# Altium footprint library TerminalBlock.PcbLib: 56 footprints (part 1 of 4)
Each footprint in its own frame and in the unit in brackets; x right, y up, seen from the top. Pads: shape width x height; smd on the part's side, far side on the other; paste and mask are expansions set on the pad; w line width, h text height; cw(c..) or ccw(c..) is an arc to the next point about the centre after c.
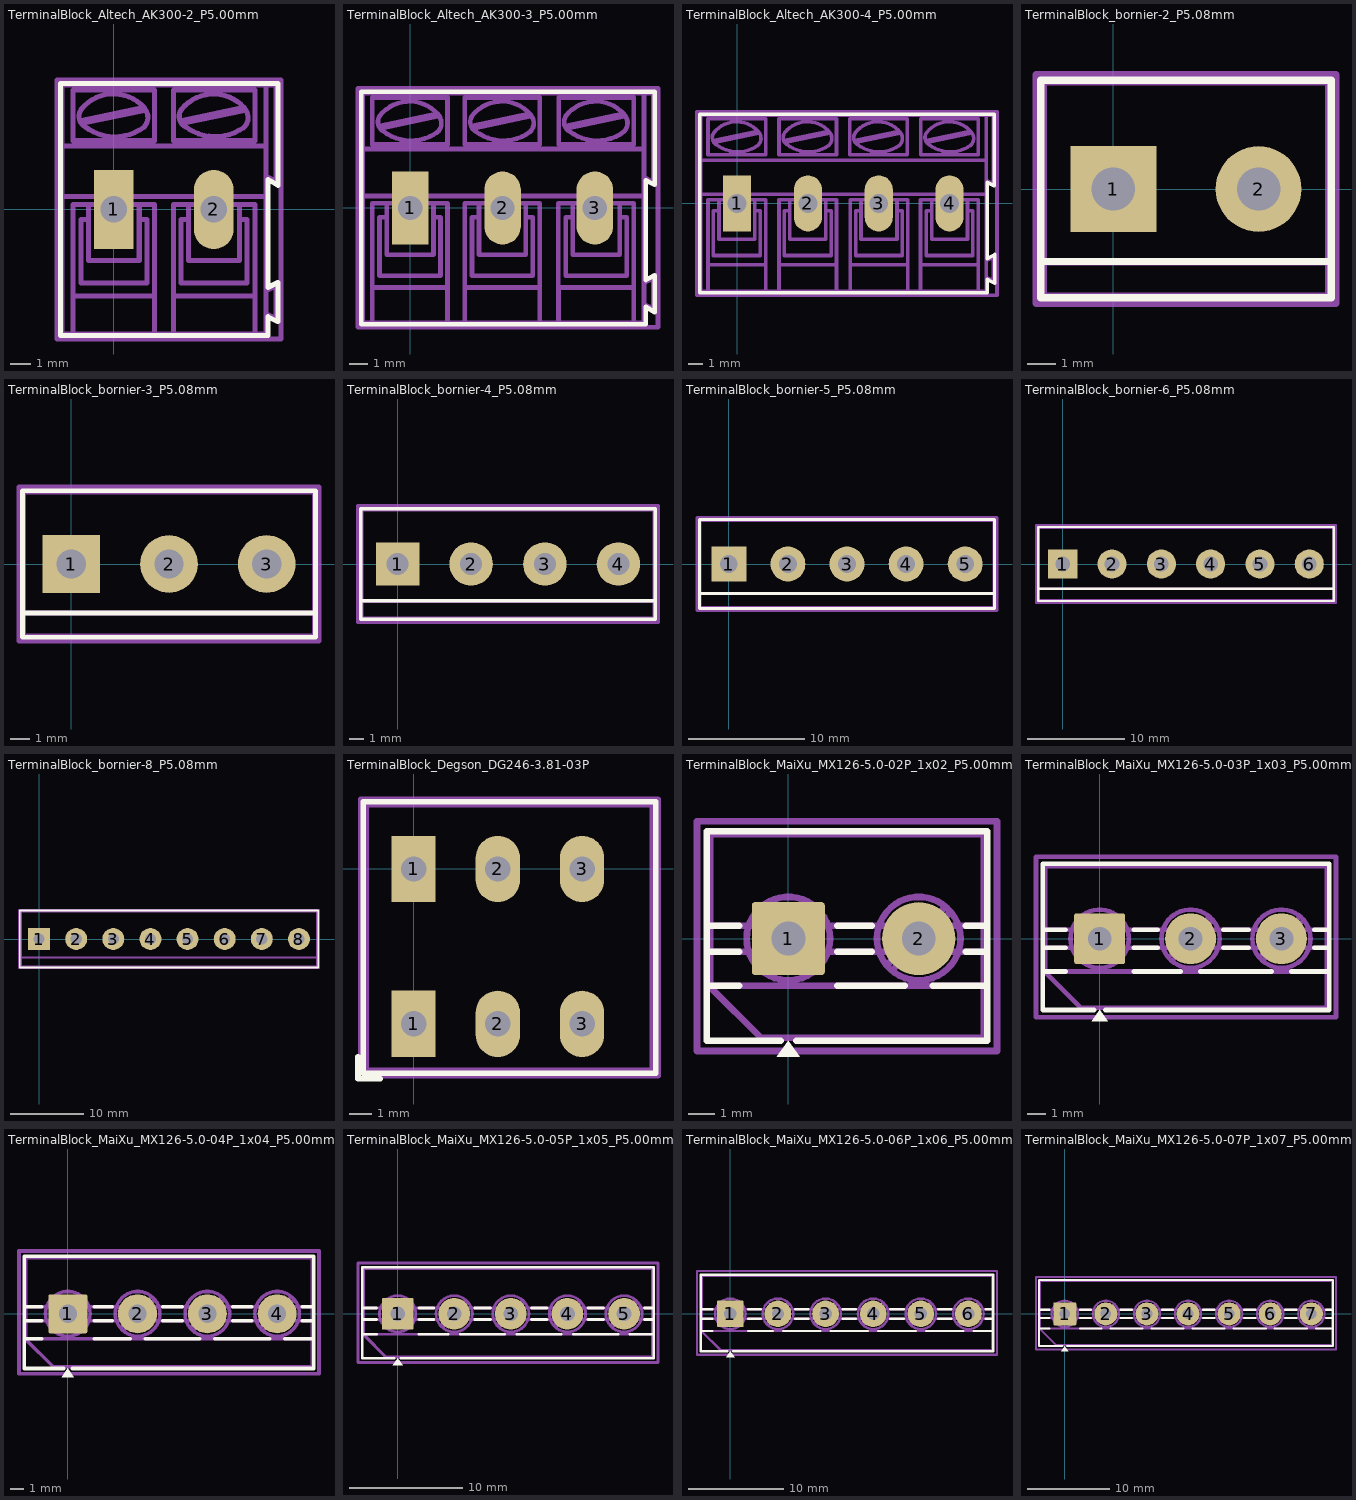
[diagram p0: the footprints below, top view; thin cyan lines are the x and y axes]

## TerminalBlock_Altech_AK300-2_P5.00mm [mm]
pads (2):
  rect 1.98x3.96 hole 1.32: 1(0,0)
  rrect100% 1.98x3.96 hole 1.32: 2(5,0)
F.SilkS:
  lines w0.254: -2.65,-6.3 -2.65,6.3 8.2,6.3 8.2,1.2 7.7,1.5 7.7,-3.9 8.2,-3.65 8.2,-3.7 8.2,-5.6 7.7,-5.35 7.7,-6.3 -2.65,-6.3
F.Fab:
  lines w0.254: -1.62,4.45 1.44,5.08 ; -1.62,5 cw(c-0.01,3.71) 1.54,5.072 ; -1.563,5.059 ccw(c-1.13,4.65) -1.42,4.13 ; -1.49,4.32 1.56,4.95 ; -1.46,4.159 ccw(c0.06,6.07) 1.53,4.12 ; -1.26,-0.51 -1.64,-0.51 -1.64,-3.68 1.66,-3.68 1.66,-0.51 1.28,-0.51 ; 1.486,4.086 ccw(c1.03,4.59) 1.53,5.05 ; 3.39,4.45 6.44,5.08 ; 3.39,5 cw(c4.99,3.71) 6.538,5.062 ; 3.437,5.059 ccw(c3.87,4.65) 3.58,4.13 ; 3.52,4.32 6.56,4.95 ; 3.548,4.168 ccw(c5.07,6.07) 6.53,4.12 ; 3.74,-0.51 3.36,-0.51 3.36,-3.68 6.67,-3.68 6.67,-0.51 6.28,-0.51 ; 6.486,4.076 ccw(c6.03,4.59) 6.54,5.05 ; -2.58,0.64 -2.58,3.17 ; -2.58,0.64 -1.64,0.64 1.66,0.64 3.36,0.64 6.67,0.64 7.61,0.64 ; -2.58,0.64 -2.58,-6.22 -2.02,-6.22 ; -2.58,3.17 -2.58,6.22 7.61,6.22 ; -2.58,3.17 7.61,3.17 ; -2.02,-6.22 -2.02,-4.32 ; -2.02,-6.22 2.04,-6.22 ; -2.02,-4.32 -2.02,0.25 -1.64,0.25 1.66,0.25 2.04,0.25 2.04,-4.32 ; -2.02,-4.32 2.04,-4.32 ; 2.04,-6.22 2.04,-4.32 ; 2.04,-6.22 2.98,-6.22 ; 2.98,-6.22 2.98,-4.32 ; 2.98,-6.22 7.05,-6.22 ; 2.98,-4.32 2.98,0.25 3.36,0.25 6.67,0.25 7.05,0.25 7.05,-4.32 ; 2.98,-4.32 7.05,-4.32 ; 7.05,-6.22 7.05,-4.32 ; 7.05,-6.22 7.61,-6.22 7.61,-5.21 ; 7.61,-5.21 7.61,-4.06 ; 7.61,-5.21 8.11,-5.46 8.11,-3.81 7.61,-4.06 ; 7.61,-4.06 7.61,0.64 ; 7.61,0.64 7.61,1.65 ; 7.61,1.65 7.61,3.17 ; 7.61,1.65 8.11,1.4 8.11,6.22 7.61,6.22 ; 7.61,3.17 7.61,6.22 ; -2.02,3.43 -2.02,5.97 2.04,5.97 2.04,3.43 -2.02,3.43 ; -1.26,-2.54 -1.26,0.25 1.28,0.25 1.28,-2.54 -1.26,-2.54 ; 2.98,3.43 2.98,5.97 7.05,5.97 7.05,3.43 2.98,3.43 ; 3.74,-2.54 3.74,0.25 6.28,0.25 6.28,-2.54 3.74,-2.54
  text "'.Designator'" at -1.547,1.16 h1
F.CrtYd:
  lines w0.254: -2.83,-6.47 -2.83,6.47 8.36,6.47 8.36,-6.47 -2.83,-6.47

## TerminalBlock_Altech_AK300-3_P5.00mm [mm]
pads (3):
  rect 1.98x3.96 hole 1.32: 1(0,0)
  rrect100% 1.98x3.96 hole 1.32: 2(5,0) 3(10,0)
F.SilkS:
  lines w0.254: -2.65,-6.3 -2.65,6.3 13.25,6.3 13.25,1.25 12.75,1.5 12.75,-3.9 13.25,-3.65 13.25,-5.65 12.75,-5.35 12.75,-6.3 -2.65,-6.3
F.Fab:
  lines w0.254: -2.52,0.65 12.66,0.65 ; -1.64,4.46 1.41,5.09 ; -1.64,5.01 cw(c-0.04,3.72) 1.508,5.072 ; -1.595,5.059 ccw(c-1.16,4.66) -1.44,4.14 ; -1.51,4.33 1.53,4.96 ; -1.482,4.178 ccw(c0.04,6.08) 1.5,4.13 ; -1.28,-0.5 -1.67,-0.5 -1.67,-3.67 1.64,-3.67 1.64,-0.5 1.26,-0.5 ; 1.456,4.086 ccw(c1,4.6) 1.51,5.06 ; 3.36,4.46 6.41,5.09 ; 3.36,5.01 cw(c4.96,3.72) 6.508,5.072 ; 3.417,5.069 ccw(c3.85,4.66) 3.56,4.14 ; 3.49,4.33 6.54,4.96 ; 3.518,4.178 ccw(c5.04,6.08) 6.5,4.13 ; 3.72,-0.5 3.34,-0.5 3.34,-3.67 6.64,-3.67 6.64,-0.5 6.26,-0.5 ; 6.466,4.096 ccw(c6.01,4.6) 6.51,5.06 ; 8.02,-6.21 8.02,-5.2 8.02,-4.05 ; 8.02,-3.99 8.02,0.26 ; 8.04,-6.21 8.04,-4.31 12.1,-4.31 ; 8.04,0.26 8.42,0.26 11.72,0.26 12.1,0.26 12.1,-4.31 ; 8.44,4.46 11.49,5.09 ; 8.44,5.01 cw(c10.04,3.72) 11.588,5.072 ; 8.497,5.069 ccw(c8.93,4.66) 8.64,4.14 ; 8.57,4.33 11.62,4.96 ; 8.598,4.178 ccw(c10.12,6.08) 11.58,4.13 ; 8.8,-0.5 8.42,-0.5 8.42,-3.67 11.72,-3.67 11.72,-0.5 11.34,-0.5 ; 11.546,4.096 ccw(c11.09,4.6) 11.59,5.06 ; 12.09,-6.21 7.58,-6.21 7.02,-6.21 ; 12.6,3.19 7.58,3.19 -2.58,3.19 ; -2.58,3.19 -2.58,6.23 12.66,6.23 ; -2.58,3.19 -2.58,0.65 -2.58,-6.21 -2.05,-6.21 ; -2.05,-6.21 -2.05,-4.31 ; -2.05,-6.21 2.02,-6.21 ; -2.05,-4.31 -2.05,0.26 -1.67,0.26 1.64,0.26 2.02,0.26 2.02,-4.31 ; -2.05,-4.31 2.02,-4.31 ; 2.02,-6.21 2.02,-4.31 ; 2.02,-6.21 2.96,-6.21 ; 2.96,-6.21 2.96,-4.31 ; 2.96,-6.21 7.02,-6.21 ; 2.96,-4.31 2.96,0.26 3.34,0.26 6.64,0.26 7.02,0.26 7.02,-4.31 ; 2.96,-4.31 7.02,-4.31 ; 7.02,-6.21 7.02,-4.31 ; 12.1,-4.31 12.1,-6.21 12.66,-6.21 12.66,-5.2 ; 12.66,-5.2 12.66,-4.05 ; 12.66,-5.2 13.17,-5.45 13.17,-3.8 12.66,-4.05 ; 12.66,-4.05 12.66,0.65 ; 12.66,0.65 12.66,1.66 ; 12.66,1.66 12.66,3.19 12.66,6.23 ; 12.66,1.66 13.17,1.41 13.17,6.23 12.66,6.23 ; -2.05,3.44 -2.05,5.98 2.02,5.98 2.02,3.44 -2.05,3.44 ; -1.28,-2.53 -1.28,0.26 1.26,0.26 1.26,-2.53 -1.28,-2.53 ; 2.96,3.44 2.96,5.98 7.02,5.98 7.02,3.44 2.96,3.44 ; 3.72,-2.53 3.72,0.26 6.26,0.26 6.26,-2.53 3.72,-2.53 ; 8.04,3.44 8.04,5.98 12.1,5.98 12.1,3.44 8.04,3.44 ; 8.8,-2.53 8.8,0.26 11.34,0.26 11.34,-2.53 8.8,-2.53
  text "'.Designator'" at 0.953,1.16 h1
F.CrtYd:
  lines w0.254: -2.83,-6.46 -2.83,6.48 13.42,6.48 13.42,-6.46 -2.83,-6.46

## TerminalBlock_Altech_AK300-4_P5.00mm [mm]
pads (4):
  rect 1.98x3.96 hole 1.32: 1(0,0)
  rrect100% 1.98x3.96 hole 1.32: 2(5,0) 3(10,0) 4(15,0)
F.SilkS:
  lines w0.254: -2.65,-6.3 -2.65,6.3 18.15,6.3 18.15,1.25 17.65,1.5 17.65,-3.9 18.2,-3.6 18.2,-5.65 17.65,-5.35 17.65,-6.3 -2.65,-6.3
F.Fab:
  lines w0.254: -2.58,3.05 17.59,3.05 ; -2.52,0.64 12.66,0.64 ; -1.64,4.45 1.41,5.08 ; -1.64,5 cw(c-0.04,3.71) 1.508,5.062 ; -1.595,5.049 ccw(c-1.16,4.65) -1.44,4.13 ; -1.51,4.32 1.53,4.95 ; -1.482,4.168 ccw(c0.04,6.07) 1.5,4.12 ; -1.28,-0.51 -1.67,-0.51 -1.67,-3.68 1.64,-3.68 1.64,-0.51 1.26,-0.51 ; 1.456,4.076 ccw(c1,4.59) 1.51,5.05 ; 3.36,4.45 6.41,5.08 ; 3.36,5 cw(c4.96,3.71) 6.508,5.062 ; 3.417,5.059 ccw(c3.85,4.65) 3.56,4.13 ; 3.49,4.32 6.54,4.95 ; 3.518,4.168 ccw(c5.04,6.07) 6.5,4.12 ; 3.72,-0.51 3.34,-0.51 3.34,-3.68 6.64,-3.68 6.64,-0.51 6.26,-0.51 ; 6.466,4.086 ccw(c6.01,4.59) 6.51,5.05 ; 7.07,-6.22 13.17,-6.22 ; 7.99,-6.22 7.99,0.25 12.05,0.25 12.05,-6.22 ; 7.99,-4.32 12.05,-4.32 ; 8.34,4.45 11.39,5.08 ; 8.34,5 cw(c9.94,3.71) 11.488,5.062 ; 8.397,5.059 ccw(c8.83,4.65) 8.54,4.13 ; 8.47,4.32 11.52,4.95 ; 8.498,4.168 ccw(c10.02,6.07) 11.48,4.12 ; 8.75,-0.51 8.37,-0.51 8.37,-3.68 11.67,-3.68 11.67,-0.51 11.29,-0.51 ; 8.75,0.25 8.75,-2.54 11.29,-2.54 11.29,0.25 ; 11.446,4.086 ccw(c10.99,4.59) 11.49,5.05 ; 12.51,0.64 17.59,0.64 ; 12.95,-6.22 12.95,-5.21 12.95,-4.06 ; 12.95,-4 12.95,0.25 ; 12.97,-6.22 12.97,-4.32 17.03,-4.32 ; 12.97,0.25 13.35,0.25 16.65,0.25 17.03,0.25 17.03,-4.32 ; 13.02,-6.22 16.95,-6.22 ; 13.37,4.45 16.42,5.08 ; 13.37,5 cw(c14.97,3.71) 16.518,5.062 ; 13.427,5.059 ccw(c13.86,4.65) 13.57,4.13 ; 13.5,4.32 16.55,4.95 ; 13.528,4.168 ccw(c15.05,6.07) 16.51,4.12 ; 13.73,-0.51 13.35,-0.51 13.35,-3.68 16.65,-3.68 16.65,-0.51 16.27,-0.51 ; 16.476,4.086 ccw(c16.02,4.59) 16.52,5.05 ; 17.74,6.22 -2.58,6.22 -2.58,3.17 -2.58,0.64 -2.58,-6.22 -2.05,-6.22 ; -2.05,-6.22 -2.05,-4.32 ; -2.05,-6.22 2.02,-6.22 ; -2.05,-4.32 -2.05,0.25 -1.67,0.25 1.64,0.25 2.02,0.25 2.02,-4.32 ; -2.05,-4.32 2.02,-4.32 ; 2.02,-6.22 2.02,-4.32 ; 2.02,-6.22 2.96,-6.22 ; 2.96,-6.22 2.96,-4.32 ; 2.96,-6.22 7.02,-6.22 7.02,-4.32 ; 2.96,-4.32 2.96,0.25 3.34,0.25 6.64,0.25 7.02,0.25 7.02,-4.32 ; 2.96,-4.32 7.02,-4.32 ; 17.03,-4.32 17.03,-6.22 17.59,-6.22 17.59,-5.21 ; 17.59,-5.21 17.59,-4.06 ; 17.59,-5.21 18.1,-5.46 18.1,-3.81 17.59,-4.06 ; 17.59,-4.06 17.59,0.64 ; 17.59,0.64 17.59,1.65 ; 17.59,1.65 17.59,3.17 17.59,6.22 18.1,6.22 18.1,1.4 17.59,1.65 ; -2.05,3.43 -2.05,5.97 2.02,5.97 2.02,3.43 -2.05,3.43 ; -1.28,-2.54 -1.28,0.25 1.26,0.25 1.26,-2.54 -1.28,-2.54 ; 2.96,3.43 2.96,5.97 7.02,5.97 7.02,3.43 2.96,3.43 ; 3.72,-2.54 3.72,0.25 6.26,0.25 6.26,-2.54 3.72,-2.54 ; 7.94,3.43 7.94,5.97 12,5.97 12,3.43 7.94,3.43 ; 12.97,3.43 12.97,5.97 17.03,5.97 17.03,3.43 12.97,3.43 ; 13.73,-2.54 13.73,0.25 16.27,0.25 16.27,-2.54 13.73,-2.54
  text "'.Designator'" at 3.453,1.16 h1
F.CrtYd:
  lines w0.254: -2.83,-6.47 -2.83,6.47 18.35,6.47 18.35,-6.47 -2.83,-6.47

## TerminalBlock_bornier-2_P5.08mm [mm]
pads (2):
  rect 3x3 hole 1.52: 1(0,0)
  round 3 hole 1.52: 2(5.08,0)
F.SilkS:
  lines w0.254: -2.54,-2.54 7.62,-2.54 ; -2.54,-3.81 -2.54,3.81 7.62,3.81 7.62,-3.81 -2.54,-3.81
F.Fab:
  lines w0.254: -2.41,-2.55 7.49,-2.55 ; -2.46,-3.75 -2.46,3.75 7.54,3.75 7.54,-3.75 -2.46,-3.75
  text "'.Designator'" at -1.507,-0.84 h1
F.CrtYd:
  lines w0.254: -2.71,-4 -2.71,4 7.79,4 7.79,-4 -2.71,-4

## TerminalBlock_bornier-3_P5.08mm [mm]
pads (3):
  rect 3x3 hole 1.52: 1(0,0)
  round 3 hole 1.52: 2(5.08,0) 3(10.16,0)
F.SilkS:
  lines w0.254: -2.54,-2.54 12.7,-2.54 ; -2.54,-3.81 -2.54,3.81 12.7,3.81 12.7,-3.81 -2.54,-3.81
F.Fab:
  lines w0.254: -2.47,-2.55 12.63,-2.55 ; -2.47,-3.75 -2.47,3.75 12.63,3.75 12.63,-3.75 -2.47,-3.75
  text "'.Designator'" at 1.033,-0.84 h1
F.CrtYd:
  lines w0.254: -2.72,-4 -2.72,4 12.88,4 12.88,-4 -2.72,-4

## TerminalBlock_bornier-4_P5.08mm [mm]
pads (4):
  rect 3x3 hole 1.52: 1(0,0)
  round 3 hole 1.52: 2(5.08,0) 3(10.16,0) 4(15.24,0)
F.SilkS:
  lines w0.254: -2.54,-2.54 17.78,-2.54 ; -2.54,-3.81 -2.54,3.81 17.78,3.81 17.78,-3.81 -2.54,-3.81
F.Fab:
  lines w0.254: -2.48,-2.55 17.72,-2.55 ; -2.48,-3.75 -2.48,3.75 17.72,3.75 17.72,-3.75 -2.43,-3.75 -2.48,-3.75
  text "'.Designator'" at 3.573,-0.84 h1
F.CrtYd:
  lines w0.254: -2.73,-4 -2.73,4 17.97,4 17.97,-4 -2.73,-4

## TerminalBlock_bornier-5_P5.08mm [mm]
pads (5):
  rect 3x3 hole 1.52: 1(0,0)
  round 3 hole 1.52: 2(5.08,0) 3(10.16,0) 4(15.24,0) 5(20.32,0)
F.SilkS:
  lines w0.254: -2.54,-2.54 22.86,-2.54 ; -2.54,-3.81 -2.54,3.81 22.86,3.81 22.86,-3.81 -2.54,-3.81
F.Fab:
  lines w0.254: -2.49,-2.55 22.81,-2.55 ; -2.49,-3.75 -2.49,3.75 22.81,3.75 22.81,-3.75 -2.49,-3.75
  text "'.Designator'" at 6.113,-0.84 h1
F.CrtYd:
  lines w0.254: -2.74,-4 -2.74,4 23.06,4 23.06,-4 -2.74,-4

## TerminalBlock_bornier-6_P5.08mm [mm]
pads (6):
  rect 3x3 hole 1.52: 1(0,0)
  round 3 hole 1.52: 2(5.08,0) 3(10.16,0) 4(15.24,0) 5(20.32,0) 6(25.4,0)
F.SilkS:
  lines w0.254: -2.54,-2.54 27.94,-2.54 ; -2.54,-3.81 -2.54,3.81 27.94,3.81 27.94,-3.81 -2.54,-3.81
F.Fab:
  lines w0.254: -2.5,-2.55 27.9,-2.55 ; -2.5,-3.75 -2.5,3.75 27.9,3.75 27.9,-3.75 -2.5,-3.75
  text "'.Designator'" at 8.653,-0.84 h1
F.CrtYd:
  lines w0.254: -2.75,-4 -2.75,4 28.15,4 28.15,-4 -2.75,-4

## TerminalBlock_bornier-8_P5.08mm [mm]
pads (8):
  rect 3x3 hole 1.52: 1(0,0)
  round 3 hole 1.52: 2(5.08,0) 3(10.16,0) 4(15.24,0) 5(20.32,0) 6(25.4,0) 7(30.48,0) 8(35.56,0)
F.SilkS:
  lines w0.254: -2.64,-3.89 -2.64,3.89 38.2,3.89 38.2,-3.89 -2.64,-3.89
F.Fab:
  lines w0.254: -2.5,-2.55 38.06,-2.55 ; -2.5,-3.75 -2.5,3.75 38.06,3.75 38.06,-3.75 -2.5,-3.75
  text "'.Designator'" at 13.733,-0.84 h1
F.CrtYd:
  lines w0.254: -2.75,-4 -2.75,4 38.31,4 38.31,-4 -2.75,-4

## TerminalBlock_Degson_DG246-3.81-03P [mm]
pads (6):
  rect 2x3 hole 1.15: 1(0,-7) 1(0,0)
  rrect100% 2x3 hole 1.15: 2(3.81,-7) 2(3.81,0) 3(7.62,-7) 3(7.62,0)
F.SilkS:
  lines w0.254: -2.51,-8.48 -2.51,-9.48 -1.51,-9.48 ; -2.27,-9.24 -2.27,3.04 10.94,3.04 10.94,-9.24 -2.27,-9.24
F.Fab:
  lines w0.254: -2.13,-9.1 -2.13,2.9 10.8,2.9 10.8,-9.1 -2.13,-9.1
  text "'.Designator'" at 0.243,-4.35 h1
F.CrtYd:
  lines w0.254: -2.38,-9.35 -2.38,3.15 11.05,3.15 11.05,-9.35 -2.38,-9.35

## TerminalBlock_MaiXu_MX126-5.0-02P_1x02_P5.00mm [mm]
pads (2):
  rrect9% 2.8x2.8 hole 1.3: 1(0,0)
  round 2.8 hole 1.3: 2(5,0)
F.SilkS:
  region: 0.44,-4.53 -0.44,-4.53 0,-3.92
  lines w0.254: -3.12,-1.8 -1.88,-1.8 ; -3.12,-0.5 -1.88,-0.5 ; -3.12,0.5 -1.88,0.5 ; -0.3,-3.92 -3.12,-3.92 -3.12,4.12 7.62,4.12 7.62,-3.92 0.3,-3.92 ; 1.88,-1.8 4.457,-1.8 ; 1.88,-0.5 3.188,-0.5 ; 1.88,0.5 3.188,0.5 ; 5.543,-1.8 7.62,-1.8 ; 6.812,-0.5 7.62,-0.5 ; 6.812,0.5 7.62,0.5
F.Fab:
  circle w0.254: c0,0 r1.6
  circle w0.254: c5,0 r1.6
  lines w0.254: -3,-1.8 7.5,-1.8 ; -3,-0.5 7.5,-0.5 ; -3,0.5 7.5,0.5 ; -1.213,-1.018 1.018,1.213 ; -1.018,-1.213 1.213,1.018 ; 3.787,-1.018 6.018,1.213 ; 3.982,-1.213 6.213,1.018 ; -3,-1.85 -3,4 7.5,4 7.5,-3.8 -1.05,-3.8 -3,-1.85
  text "'.Designator'" at -1.797,-3.49 h1
F.CrtYd:
  lines w0.254: -3.5,-4.31 -3.5,4.5 8,4.5 8,-4.31 -3.5,-4.31

## TerminalBlock_MaiXu_MX126-5.0-03P_1x03_P5.00mm [mm]
pads (3):
  rrect9% 2.8x2.8 hole 1.3: 1(0,0)
  round 2.8 hole 1.3: 2(5,0) 3(10,0)
F.SilkS:
  region: 0.44,-4.53 -0.44,-4.53 0,-3.92
  lines w0.254: -3.12,-1.8 -1.88,-1.8 ; -3.12,-0.5 -1.88,-0.5 ; -3.12,0.5 -1.88,0.5 ; -0.3,-3.92 -3.12,-3.92 -3.12,4.12 12.62,4.12 12.62,-3.92 0.3,-3.92 ; 1.88,-1.8 4.457,-1.8 ; 1.88,-0.5 3.188,-0.5 ; 1.88,0.5 3.188,0.5 ; 5.543,-1.8 9.457,-1.8 ; 6.812,-0.5 8.188,-0.5 ; 6.812,0.5 8.188,0.5 ; 10.543,-1.8 12.62,-1.8 ; 11.812,-0.5 12.62,-0.5 ; 11.812,0.5 12.62,0.5
F.Fab:
  circle w0.254: c0,0 r1.6
  circle w0.254: c5,0 r1.6
  circle w0.254: c10,0 r1.6
  lines w0.254: -3,-1.8 12.5,-1.8 ; -3,-0.5 12.5,-0.5 ; -3,0.5 12.5,0.5 ; -1.213,-1.018 1.018,1.213 ; -1.018,-1.213 1.213,1.018 ; 3.787,-1.018 6.018,1.213 ; 3.982,-1.213 6.213,1.018 ; 8.787,-1.018 11.018,1.213 ; 8.982,-1.213 11.213,1.018 ; -3,-1.85 -3,4 12.5,4 12.5,-3.8 -1.05,-3.8 -3,-1.85
  text "'.Designator'" at 0.703,-3.49 h1
F.CrtYd:
  lines w0.254: -3.5,-4.31 -3.5,4.5 13,4.5 13,-4.31 -3.5,-4.31

## TerminalBlock_MaiXu_MX126-5.0-04P_1x04_P5.00mm [mm]
pads (4):
  rrect9% 2.8x2.8 hole 1.3: 1(0,0)
  round 2.8 hole 1.3: 2(5,0) 3(10,0) 4(15,0)
F.SilkS:
  region: 0.44,-4.53 -0.44,-4.53 0,-3.92
  lines w0.254: -3.12,-1.8 -1.88,-1.8 ; -3.12,-0.5 -1.88,-0.5 ; -3.12,0.5 -1.88,0.5 ; -0.3,-3.92 -3.12,-3.92 -3.12,4.12 17.62,4.12 17.62,-3.92 0.3,-3.92 ; 1.88,-1.8 4.457,-1.8 ; 1.88,-0.5 3.188,-0.5 ; 1.88,0.5 3.188,0.5 ; 5.543,-1.8 9.457,-1.8 ; 6.812,-0.5 8.188,-0.5 ; 6.812,0.5 8.188,0.5 ; 10.543,-1.8 14.457,-1.8 ; 11.812,-0.5 13.188,-0.5 ; 11.812,0.5 13.188,0.5 ; 15.543,-1.8 17.62,-1.8 ; 16.812,-0.5 17.62,-0.5 ; 16.812,0.5 17.62,0.5
F.Fab:
  circle w0.254: c0,0 r1.6
  circle w0.254: c5,0 r1.6
  circle w0.254: c10,0 r1.6
  circle w0.254: c15,0 r1.6
  lines w0.254: -3,-1.8 17.5,-1.8 ; -3,-0.5 17.5,-0.5 ; -3,0.5 17.5,0.5 ; -1.213,-1.018 1.018,1.213 ; -1.018,-1.213 1.213,1.018 ; 3.787,-1.018 6.018,1.213 ; 3.982,-1.213 6.213,1.018 ; 8.787,-1.018 11.018,1.213 ; 8.982,-1.213 11.213,1.018 ; 13.787,-1.018 16.018,1.213 ; 13.982,-1.213 16.213,1.018 ; -3,-1.85 -3,4 17.5,4 17.5,-3.8 -1.05,-3.8 -3,-1.85
  text "'.Designator'" at 3.203,-3.49 h1
F.CrtYd:
  lines w0.254: -3.5,-4.31 -3.5,4.5 18,4.5 18,-4.31 -3.5,-4.31

## TerminalBlock_MaiXu_MX126-5.0-05P_1x05_P5.00mm [mm]
pads (5):
  rrect9% 2.8x2.8 hole 1.3: 1(0,0)
  round 2.8 hole 1.3: 2(5,0) 3(10,0) 4(15,0) 5(20,0)
F.SilkS:
  region: 0.44,-4.53 -0.44,-4.53 0,-3.92
  lines w0.254: -3.12,-1.8 -1.88,-1.8 ; -3.12,-0.5 -1.88,-0.5 ; -3.12,0.5 -1.88,0.5 ; -0.3,-3.92 -3.12,-3.92 -3.12,4.12 22.62,4.12 22.62,-3.92 0.3,-3.92 ; 1.88,-1.8 4.457,-1.8 ; 1.88,-0.5 3.188,-0.5 ; 1.88,0.5 3.188,0.5 ; 5.543,-1.8 9.457,-1.8 ; 6.812,-0.5 8.188,-0.5 ; 6.812,0.5 8.188,0.5 ; 10.543,-1.8 14.457,-1.8 ; 11.812,-0.5 13.188,-0.5 ; 11.812,0.5 13.188,0.5 ; 15.543,-1.8 19.457,-1.8 ; 16.812,-0.5 18.188,-0.5 ; 16.812,0.5 18.188,0.5 ; 20.543,-1.8 22.62,-1.8 ; 21.812,-0.5 22.62,-0.5 ; 21.812,0.5 22.62,0.5
F.Fab:
  circle w0.254: c0,0 r1.6
  circle w0.254: c5,0 r1.6
  circle w0.254: c10,0 r1.6
  circle w0.254: c15,0 r1.6
  circle w0.254: c20,0 r1.6
  lines w0.254: -3,-1.8 22.5,-1.8 ; -3,-0.5 22.5,-0.5 ; -3,0.5 22.5,0.5 ; -1.213,-1.018 1.018,1.213 ; -1.018,-1.213 1.213,1.018 ; 3.787,-1.018 6.018,1.213 ; 3.982,-1.213 6.213,1.018 ; 8.787,-1.018 11.018,1.213 ; 8.982,-1.213 11.213,1.018 ; 13.787,-1.018 16.018,1.213 ; 13.982,-1.213 16.213,1.018 ; 18.787,-1.018 21.018,1.213 ; 18.982,-1.213 21.213,1.018 ; -3,-1.85 -3,4 22.5,4 22.5,-3.8 -1.05,-3.8 -3,-1.85
  text "'.Designator'" at 5.703,-3.49 h1
F.CrtYd:
  lines w0.254: -3.5,-4.31 -3.5,4.5 23,4.5 23,-4.31 -3.5,-4.31

## TerminalBlock_MaiXu_MX126-5.0-06P_1x06_P5.00mm [mm]
pads (6):
  rrect9% 2.8x2.8 hole 1.3: 1(0,0)
  round 2.8 hole 1.3: 2(5,0) 3(10,0) 4(15,0) 5(20,0) 6(25,0)
F.SilkS:
  region: 0.44,-4.53 -0.44,-4.53 0,-3.92
  lines w0.254: -3.12,-1.8 -1.88,-1.8 ; -3.12,-0.5 -1.88,-0.5 ; -3.12,0.5 -1.88,0.5 ; -0.3,-3.92 -3.12,-3.92 -3.12,4.12 27.62,4.12 27.62,-3.92 0.3,-3.92 ; 1.88,-1.8 4.457,-1.8 ; 1.88,-0.5 3.188,-0.5 ; 1.88,0.5 3.188,0.5 ; 5.543,-1.8 9.457,-1.8 ; 6.812,-0.5 8.188,-0.5 ; 6.812,0.5 8.188,0.5 ; 10.543,-1.8 14.457,-1.8 ; 11.812,-0.5 13.188,-0.5 ; 11.812,0.5 13.188,0.5 ; 15.543,-1.8 19.457,-1.8 ; 16.812,-0.5 18.188,-0.5 ; 16.812,0.5 18.188,0.5 ; 20.543,-1.8 24.457,-1.8 ; 21.812,-0.5 23.188,-0.5 ; 21.812,0.5 23.188,0.5 ; 25.543,-1.8 27.62,-1.8 ; 26.812,-0.5 27.62,-0.5 ; 26.812,0.5 27.62,0.5
F.Fab:
  circle w0.254: c0,0 r1.6
  circle w0.254: c5,0 r1.6
  circle w0.254: c10,0 r1.6
  circle w0.254: c15,0 r1.6
  circle w0.254: c20,0 r1.6
  circle w0.254: c25,0 r1.6
  lines w0.254: -3,-1.8 27.5,-1.8 ; -3,-0.5 27.5,-0.5 ; -3,0.5 27.5,0.5 ; -1.213,-1.018 1.018,1.213 ; -1.018,-1.213 1.213,1.018 ; 3.787,-1.018 6.018,1.213 ; 3.982,-1.213 6.213,1.018 ; 8.787,-1.018 11.018,1.213 ; 8.982,-1.213 11.213,1.018 ; 13.787,-1.018 16.018,1.213 ; 13.982,-1.213 16.213,1.018 ; 18.787,-1.018 21.018,1.213 ; 18.982,-1.213 21.213,1.018 ; 23.787,-1.018 26.018,1.213 ; 23.982,-1.213 26.213,1.018 ; -3,-1.85 -3,4 27.5,4 27.5,-3.8 -1.05,-3.8 -3,-1.85
  text "'.Designator'" at 8.203,-3.49 h1
F.CrtYd:
  lines w0.254: -3.5,-4.31 -3.5,4.5 28,4.5 28,-4.31 -3.5,-4.31

## TerminalBlock_MaiXu_MX126-5.0-07P_1x07_P5.00mm [mm]
pads (7):
  rrect9% 2.8x2.8 hole 1.3: 1(0,0)
  round 2.8 hole 1.3: 2(5,0) 3(10,0) 4(15,0) 5(20,0) 6(25,0) 7(30,0)
F.SilkS:
  region: 0.44,-4.53 -0.44,-4.53 0,-3.92
  lines w0.254: -3.12,-1.8 -1.88,-1.8 ; -3.12,-0.5 -1.88,-0.5 ; -3.12,0.5 -1.88,0.5 ; -0.3,-3.92 -3.12,-3.92 -3.12,4.12 32.62,4.12 32.62,-3.92 0.3,-3.92 ; 1.88,-1.8 4.457,-1.8 ; 1.88,-0.5 3.188,-0.5 ; 1.88,0.5 3.188,0.5 ; 5.543,-1.8 9.457,-1.8 ; 6.812,-0.5 8.188,-0.5 ; 6.812,0.5 8.188,0.5 ; 10.543,-1.8 14.457,-1.8 ; 11.812,-0.5 13.188,-0.5 ; 11.812,0.5 13.188,0.5 ; 15.543,-1.8 19.457,-1.8 ; 16.812,-0.5 18.188,-0.5 ; 16.812,0.5 18.188,0.5 ; 20.543,-1.8 24.457,-1.8 ; 21.812,-0.5 23.188,-0.5 ; 21.812,0.5 23.188,0.5 ; 25.543,-1.8 29.457,-1.8 ; 26.812,-0.5 28.188,-0.5 ; 26.812,0.5 28.188,0.5 ; 30.543,-1.8 32.62,-1.8 ; 31.812,-0.5 32.62,-0.5 ; 31.812,0.5 32.62,0.5
F.Fab:
  circle w0.254: c0,0 r1.6
  circle w0.254: c5,0 r1.6
  circle w0.254: c10,0 r1.6
  circle w0.254: c15,0 r1.6
  circle w0.254: c20,0 r1.6
  circle w0.254: c25,0 r1.6
  circle w0.254: c30,0 r1.6
  lines w0.254: -3,-1.8 32.5,-1.8 ; -3,-0.5 32.5,-0.5 ; -3,0.5 32.5,0.5 ; -1.213,-1.018 1.018,1.213 ; -1.018,-1.213 1.213,1.018 ; 3.787,-1.018 6.018,1.213 ; 3.982,-1.213 6.213,1.018 ; 8.787,-1.018 11.018,1.213 ; 8.982,-1.213 11.213,1.018 ; 13.787,-1.018 16.018,1.213 ; 13.982,-1.213 16.213,1.018 ; 18.787,-1.018 21.018,1.213 ; 18.982,-1.213 21.213,1.018 ; 23.787,-1.018 26.018,1.213 ; 23.982,-1.213 26.213,1.018 ; 28.787,-1.018 31.018,1.213 ; 28.982,-1.213 31.213,1.018 ; -3,-1.85 -3,4 32.5,4 32.5,-3.8 -1.05,-3.8 -3,-1.85
  text "'.Designator'" at 10.703,-3.49 h1
F.CrtYd:
  lines w0.254: -3.5,-4.31 -3.5,4.5 33,4.5 33,-4.31 -3.5,-4.31